# EAGLE library part USBLC6-2 (library st-microelectronics-priv)
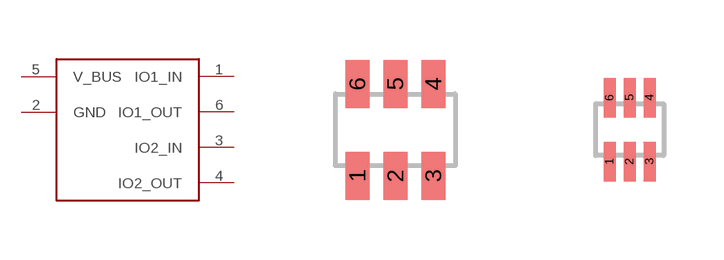
[diagram p0: symbol with the pads of SOT23-6L; footprints SOT23-6L, SOT-666]

Designator prefix -

## USBLC6-2SOT23-6L  [SOT23-6L]
1  IO1_IN  in
2  GND  pwr
3  IO2_IN  in
4  IO2_OUT  out
5  V_BUS  pwr
6  IO1_OUT  out

## USBLC6-2SOT-666  [SOT-666]
Pads as for SOT23-6L

## Footprint SOT23-6L (pad centres in mm)
smd 0.6 x 1.2: 1 -0.95,-1.15; 2 0,-1.15; 3 0.95,-1.15; 4 0.95,1.15; 5 0,1.15; 6 -0.95,1.15

## Footprint SOT-666 (pad centres in mm)
smd 0.3 x 0.99: 1 -0.5,-0.8; 2 0,-0.8; 3 0.5,-0.8; 4 0.5,0.8; 5 0,0.8; 6 -0.5,0.8